# EAGLE library part CORE1262-868M (library CORE1262-868M)
Check availability <https://pricing.snapeda.com/parts/Core1262-868M/Waveshare%20Electronics/view-part?ref=eda>
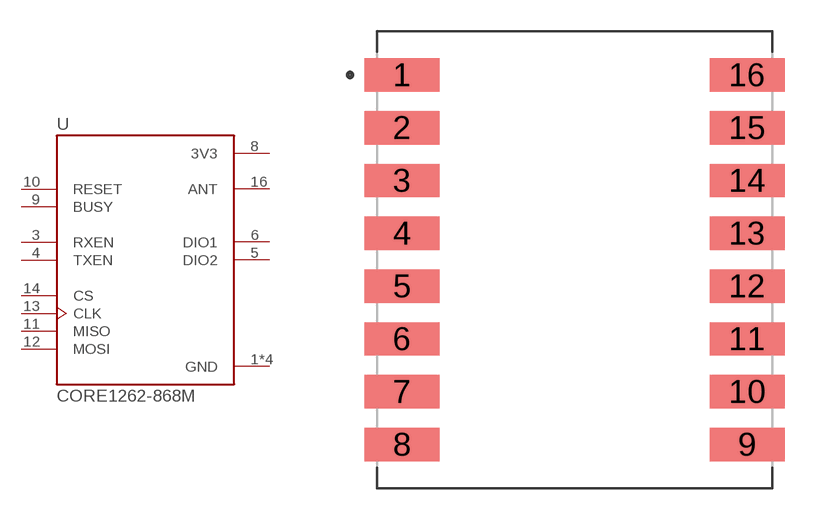
[diagram p0: symbol with the pads of XCVR_CORE1262-868M; footprint XCVR_CORE1262-868M]

Designator prefix U

## CORE1262-868M (Availability: Not in stock; Description: Lora core module; MF: Waveshare Electronics; MP: Core1262-868M; Package: Package; Price: None)  [XCVR_CORE1262-868M]
1  GND  pwr
2  GND  pwr
3  RXEN  in
4  TXEN  in
5  DIO2
6  DIO1
7  GND  pwr
8  3V3  pwr
9  BUSY  in
10  RESET  in
11  MISO  in
12  MOSI  out
13  CLK  in
14  CS  in
15  GND  pwr
16  ANT

## Footprint XCVR_CORE1262-868M (pad centres in mm)
smd 3.61 x 1.61: 1 -8.3,8.89; 2 -8.3,6.35; 3 -8.3,3.81; 4 -8.3,1.27; 5 -8.3,-1.27; 6 -8.3,-3.81; 7 -8.3,-6.35; 8 -8.3,-8.89; 9 8.3,-8.89; 10 8.3,-6.35; 11 8.3,-3.81; 12 8.3,-1.27; 13 8.3,1.27; 14 8.3,3.81; 15 8.3,6.35; 16 8.3,8.89